# Altium schematic symbol library VariableResistors.SchLib: 1 symbol
Pins are listed as number, name and electrical type; pins without a type are passive.

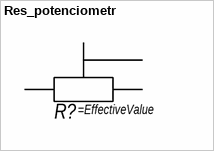
[diagram p0: symbol Res_potenciometr]

## Res_potenciometr
designator R?
pins: 1, 2, 3